# Altium schematic symbol library Schlib1.SchLib: 1 symbol
Pins are listed as number, name and electrical type; pins without a type are passive.

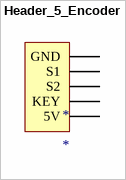
[diagram p0: symbol Header_5_Encoder]

## Header_5_Encoder
designator *
Header 5 pins to connect one encoder
footprint HDR1X5_Encoder (Header 5 pins for Encoder module)
pins: 1 GND, 2 S1 "CLK", 3 S2 "DT", 4 KEY "Press button", 5 5V